# Altium footprint library PCB_Footprints.PcbLib: 23 footprints (part 2 of 2)
Each footprint in its own frame and in the unit in brackets; x right, y up, seen from the top. Pads: shape width x height; smd on the part's side, far side on the other; paste and mask are expansions set on the pad; w line width, h text height; cw(c..) or ccw(c..) is an arc to the next point about the centre after c.
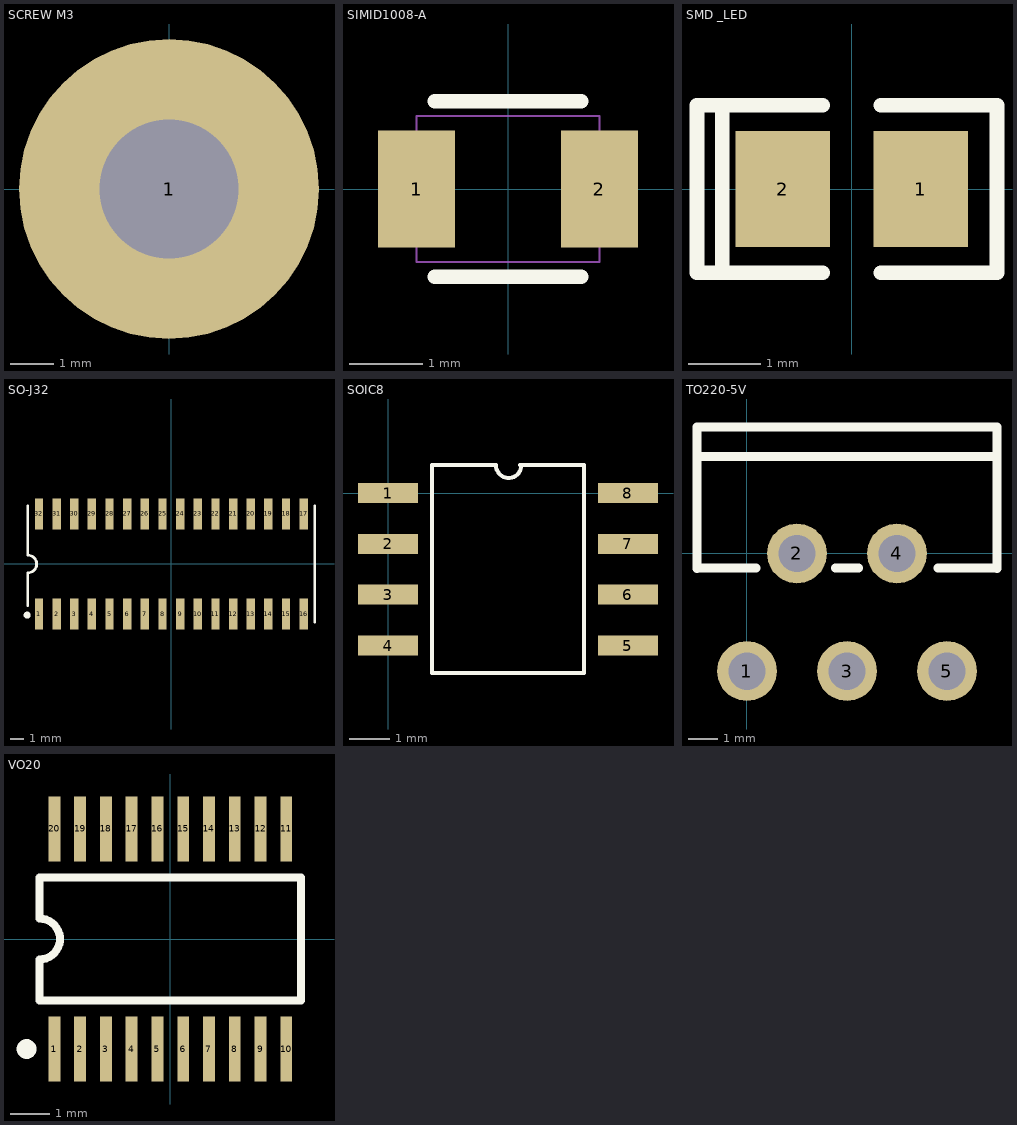
[diagram p1: the footprints below, top view; thin cyan lines are the x and y axes]

## SCREW M3 [mil]
pads (1):
  round 270 hole 125: 1(0,0)

## SIMID1008-A [mm]
pads (2):
  rect 1.05x1.6 smd: 1(-1.25,0) 2(1.25,0)
Top Overlay:
  lines w0.2: -1,-1.2 1,-1.2 ; -1,1.2 1,1.2
Mechanical 15:
  lines w0.025: -1.25,-1 -1.25,1 1.25,1 1.25,-1 -1.25,-1

## SMD _LED [mm]
pads (2):
  rect 1.3x1.6 smd: 1(0.95,0) 2(-0.95,0)
Top Overlay:
  lines w0.2: -1.78,-1.15 -1.78,1.15 ; -0.4,-1.15 -2.13,-1.15 -2.13,1.15 -0.4,1.15 ; 0.4,-1.15 2,-1.15 2,1.15 0.4,1.15

## SO-J32 [mm]
pads (32):
  rect 0.6x2.2 smd: 1(-9.525,-3.6) 2(-8.255,-3.6) 3(-6.985,-3.6) 4(-5.715,-3.6) 5(-4.445,-3.6) 6(-3.175,-3.6) 7(-1.905,-3.6) 8(-0.635,-3.6) 9(0.635,-3.6) 10(1.905,-3.6) 11(3.175,-3.6) 12(4.445,-3.6) 13(5.715,-3.6) 14(6.985,-3.6) 15(8.255,-3.6) 16(9.525,-3.6) 17(9.525,3.6) 18(8.255,3.6) 19(6.985,3.6) 20(5.715,3.6) 21(4.445,3.6) 22(3.175,3.6) 23(1.905,3.6) 24(0.635,3.6) 25(-0.635,3.6) 26(-1.905,3.6) 27(-3.175,3.6) 28(-4.445,3.6) 29(-5.715,3.6) 30(-6.985,3.6) 31(-8.255,3.6) 32(-9.525,3.6)
Top Overlay:
  circle w0.25: c-10.375,-3.676 r0.125
  lines w0.2: -10.325,-2.996 -10.325,-0.635 ccw(c-10.325,0) -10.325,0.635 -10.325,4.191 ; 10.325,-4.191 10.325,4.191

## SOIC8 [mm]
pads (8):
  rect 1.5x0.5 smd: 1(0,0) 2(0,-1.27) 3(0,-2.54) 4(0,-3.81) 5(6,-3.81) 6(6,-2.54) 7(6,-1.27) 8(6,0)
Top Overlay:
  lines w0.1: 3.3,0.7 4.9,0.7 4.9,-4.5 1.1,-4.5 1.1,0.7 2.7,0.7 ccw(c3.017,0.7) 3.335,0.7

## TO220-5V [mil] "TO220 5-lead, molded, stagger bend package."
height 708.66
pads (5):
  round 80 hole 50: 1(0,-157.48) 2(66.93,0) 3(133.86,-157.48) 4(200.79,0) 5(267.72,-157.48)
Top Overlay:
  lines w12: -66.93,-20.08 -66.93,129.92 ; -66.93,-19.68 11.81,-19.68 ; -66.93,129.29 -66.93,169.29 ; -65.35,129.92 334.65,129.92 334.65,-20.08 ; -65.35,169.29 334.65,169.29 334.65,129.29 ; 118.11,-19.68 149.61,-19.68 ; 255.91,-19.68 334.65,-19.68

## VO20 [mm]
pads (20):
  rect 0.3x1.65 smd: 1(-2.925,-2.775) 2(-2.275,-2.775) 3(-1.625,-2.775) 4(-0.975,-2.775) 5(-0.325,-2.775) 6(0.325,-2.775) 7(0.975,-2.775) 8(1.625,-2.775) 9(2.275,-2.775) 10(2.925,-2.775) 11(2.925,2.775) 12(2.275,2.775) 13(1.625,2.775) 14(0.975,2.775) 15(0.325,2.775) 16(-0.325,2.775) 17(-0.975,2.775) 18(-1.625,2.775) 19(-2.275,2.775) 20(-2.925,2.775)
Top Overlay:
  circle w0.25: c-3.625,-2.775 r0.125
  lines w0.2: -3.3,-1.55 3.3,-1.55 3.3,1.55 -3.3,1.55 -3.3,0.517 cw(c-3.3,0) -3.3,-0.517 -3.3,-1.55